# Altium integrated library CC3100MODR11MAMOBR.IntLib: 1 symbol
Pins are listed as number, name and electrical type; pins without a type are passive.

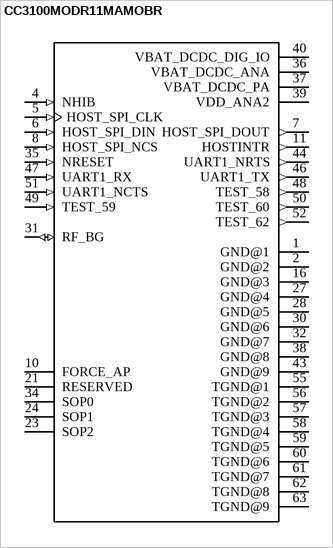
[diagram p0: symbol CC3100MODR11MAMOBR]

## CC3100MODR11MAMOBR
designator U?  (value not drawn)
Modules 802.11 2472MHz 16000Kbps 63-Pin LGA T/R; MF: Texas Instruments; Package: LGA-63 Texas Instruments; Availability: Good; MP: CC3100MODR11MAMOBR; Price: 11.18 USD; Value: *
footprint LGA63S127P16X13_2050X1750X150
pins: 1 GND@1 (power), 2 GND@2 (power), 4 NHIB (in), 5 HOST_SPI_CLK (in), 6 HOST_SPI_DIN (in), 7 HOST_SPI_DOUT (out), 8 HOST_SPI_NCS (in), 10 FORCE_AP, 11 HOSTINTR (out), 16 GND@3 (power), 21 RESERVED, 23 SOP2, 24 SOP1, 27 GND@4 (power), 28 GND@5 (power), 30 GND@6 (power), 31 RF_BG (io), 32 GND@7 (power), 34 SOP0, 35 NRESET (in), 36 VBAT_DCDC_ANA (power), 37 VBAT_DCDC_PA (power), 38 GND@8 (power), 39 VDD_ANA2 (power), 40 VBAT_DCDC_DIG_IO (power), 43 GND@9 (power), 44 UART1_NRTS (out), 46 UART1_TX (out), 47 UART1_RX (in), 48 TEST_58 (out), 49 TEST_59 (in), 50 TEST_60 (out), 51 UART1_NCTS (in), 52 TEST_62 (out), 55 TGND@1 (power), 56 TGND@2 (power), 57 TGND@3 (power), 58 TGND@4 (power), 59 TGND@5 (power), 60 TGND@6 (power), 61 TGND@7 (power), 62 TGND@8 (power), 63 TGND@9 (power)